# Altium footprint library HSY-5050RGBW.PcbLib: 1 footprints
Each footprint in its own frame and in the unit in brackets; x right, y up, seen from the top. Pads: shape width x height; smd on the part's side, far side on the other; paste and mask are expansions set on the pad; w line width, h text height; cw(c..) or ccw(c..) is an arc to the next point about the centre after c.
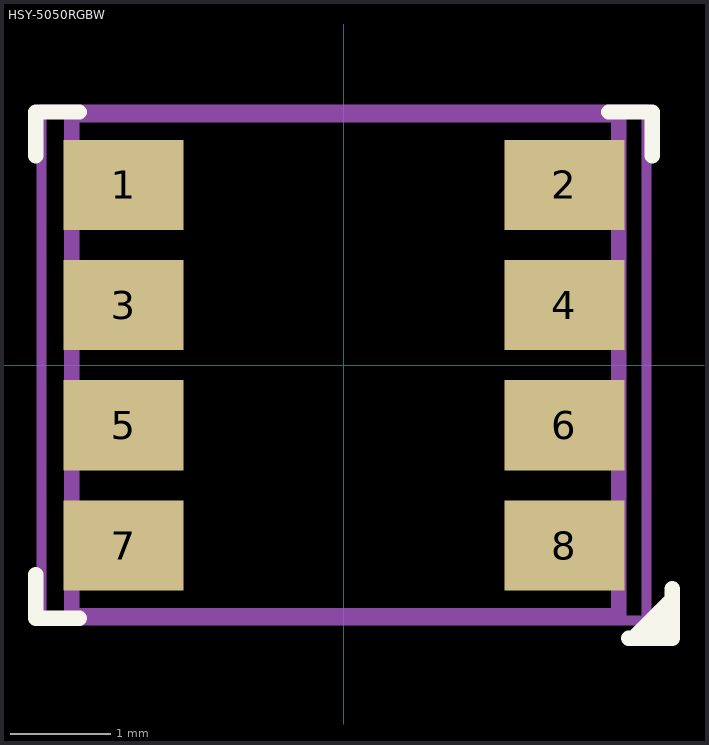
[diagram p0: the footprint, top view; thin cyan lines are the x and y axes]

## HSY-5050RGBW [mm] "Pitch 1.2mm Body 5x5mm High 1.6mm"
height 1.6
pads (8):
  rect 1.2x0.9 smd: 1(-2.2,1.8) 2(2.2,1.8) 3(-2.2,0.6) 4(2.2,0.6) 5(-2.2,-0.6) 6(2.2,-0.6) 7(-2.2,-1.8) 8(2.2,-1.8)
Top Overlay:
  region: 3.276,-2.726 3.276,-2.232 2.84,-2.668 2.84,-2.726
  lines w0.152: -3.076,-2.09 -3.076,-2.526 -2.64,-2.526 ; -3.076,2.09 -3.076,2.526 -2.64,2.526 ; 2.64,2.526 3.076,2.526 3.076,2.09 ; 2.84,-2.726 3.276,-2.726 3.276,-2.232
Mechanical 13:
  lines w0.152: -2.718,-2.5 -2.718,2.5 2.743,2.5 2.743,-2.5 -2.718,-2.5
Mechanical 15:
  lines w0.1: -3.02,-2.55 3.02,-2.55 ; -3.02,-2.54 -3.02,2.54 ; -3.02,2.55 3.02,2.55 ; 3.02,-2.54 3.02,2.54
3D body: height 1.32, standoff 0.32, extent -1.876,-1.996 2.108,1.996
3D body: height 1.62, standoff 0.62, extent -1.865,-2.011 2.119,1.981
3D body: height 1.6, standoff 1.3, extent -1.941,-1.956 2.043,2.036
3D body: height 1.6, standoff 0, extent -2.675,-2.46 2.725,2.54